# Altium schematic symbol library Diode Schematics.SchLib: 12 symbols
Pins are listed as number, name and electrical type; pins without a type are passive.

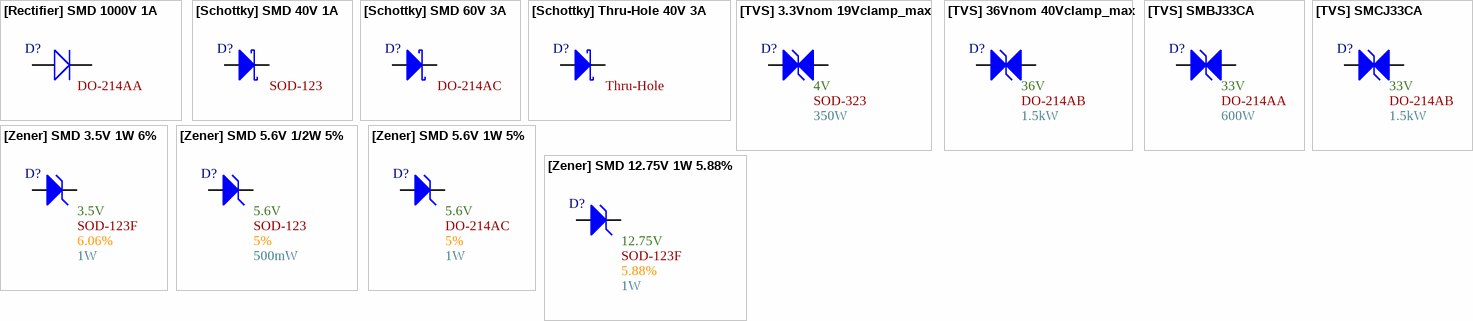
[diagram p0: symbols [Rectifier] SMD 1000V 1A to [Zener] SMD 12.75V 1W 5.88%]

## [Rectifier] SMD 1000V 1A
designator D?, comment Package: DO-214AA  (hidden comment: Rectifier)
S1MB-13-F; Supplier 1: DigiKey; Supplier Part Number 1: S1MB-FDICT-ND
footprint [Diode] SMD DO-214AA
pins: 1 Cathode (power), 2 Anode (power)

## [Schottky] SMD 40V 1A
designator D?, comment Footprint: SOD-123  (hidden comment: SOD123)
B5819W-TP; Supplier 1: DigiKey; Supplier Part Number 1: B5819W-TPMSCT-ND
footprint [Diode] SMD SOD-123
pins: 1 K, 2 A

## [Schottky] SMD 60V 3A
designator D?, comment DO-214AC
SK36A-LTP; Supplier 1: DigiKey; Footprint: DO-214AC; Supplier Part Number 1: SK36A-LTPMSCT-ND
footprint [Diode] SMD DO-214AC
pins: 1 K, 2 A

## [Schottky] Thru-Hole 40V 3A
designator D?, comment Footprint: Thru-Hole  (hidden comment: 1N5822)
Supplier 1: DigiKey; Supplier Part Number 1: 1N5822GOS-ND
footprint [Diode] Thru-Hole (1N5822)
pins: 1 K, 2 A

## [TVS] 3.3Vnom 19Vclamp_max
designator D?, comment Wattage: 350W  Optimal Zener Voltage: 4V  (hidden comment: SOD-323)
CDSOD323-T03C; Supplier 1: DigiKey; Supplier Part Number 1: CDSOD323-T03CDKR-ND; Footprint: SOD-323
footprint [Diode] SOD-323
pins: 1 K, 2 A

## [TVS] 36Vnom 40Vclamp_max
designator D?, comment Wattage: 1.5kW  Optimal Zener Voltage: 36V  (hidden comment: DO-214AB)
SMCJ36CA; Supplier 1: DigiKey; Supplier Part Number 1: SMCJ36CALFDKR-ND; Footprint: DO-214AB
footprint [Diode] SMD DO-214AB
pins: 1 K, 2 A

## [TVS] SMBJ33CA
designator D?, comment Wattage: 600W  Optimal Zener Voltage: 33V  (hidden comment: DO-214AA)
SMBJ33CA; Supplier 1: DigiKey; Supplier Part Number 1: SMBJ33CA-FDICT-ND; Footprint: DO-214AA
footprint [Diode] SMD DO-214AA
pins: 1 A, 2 K

## [TVS] SMCJ33CA
designator D?, comment Wattage: 1.5kW  Optimal Zener Voltage: 33V  Footprint: DO-214AB  (hidden comment: DO-214AA)
SMCJ33CA; Supplier 1: DigiKey; Supplier Part Number 1: SMCJ33CALFDKR-ND
footprint [Diode] SMD DO-214AB
pins: 1 K, 2 A

## [Zener] SMD 3.5V 1W 6%
designator D?, comment Tolerance: 6.06%  Wattage: 1W  Optimal Zener Voltage: 3.5V  (hidden comment: SOD-123F)
KDZVTR3.3B; Supplier 1: DigiKey; Supplier Part Number 1: 846-KDZVTR3.3BCT-ND; Footprint: SOD-123F
footprint [Diode] SOD-123F
pins: 1 K, 2 A

## [Zener] SMD 5.6V 1/2W 5%
designator D?, comment Tolerance: 5%  Wattage: 500mW  Optimal Zener Voltage: 5.6V  (hidden comment: SOD-123)
CMHZ5232B TR PBFREE; Supplier 1: DigiKey; Supplier Part Number 1: 1514-CMHZ5232BTRPBFREEDKR-ND; Footprint: SOD-123
footprint [Diode] SMD SOD-123
pins: 1 K, 2 A

## [Zener] SMD 5.6V 1W 5%
designator D?, comment Tolerance: 5%  Wattage: 1W  Optimal Zener Voltage: 5.6V  (hidden comment: DO-214AC)
SMAZ5V6-13-F; Supplier 1: DigiKey; Supplier Part Number 1: SMAZ5V6-FDICT-ND; Footprint: DO-214AC
footprint [Diode] SMD DO-214AC
pins: 1 K, 2 A

## [Zener] SMD 12.75V 1W 5.88%
designator D?, comment Tolerance: 5.88%  Wattage: 1W  Optimal Zener Voltage: 12.75V  (hidden comment: SOD-123F)
KDZVTR12B; Supplier 1: DigiKey; Supplier Part Number 1: KDZVTR12BCT-ND; Footprint: SOD-123F
footprint [Diode] SOD-123F
pins: 1 K, 2 A